# Altium integrated library NXP.IntLib: 8 symbols
Pins are listed as number, name and electrical type; pins without a type are passive.

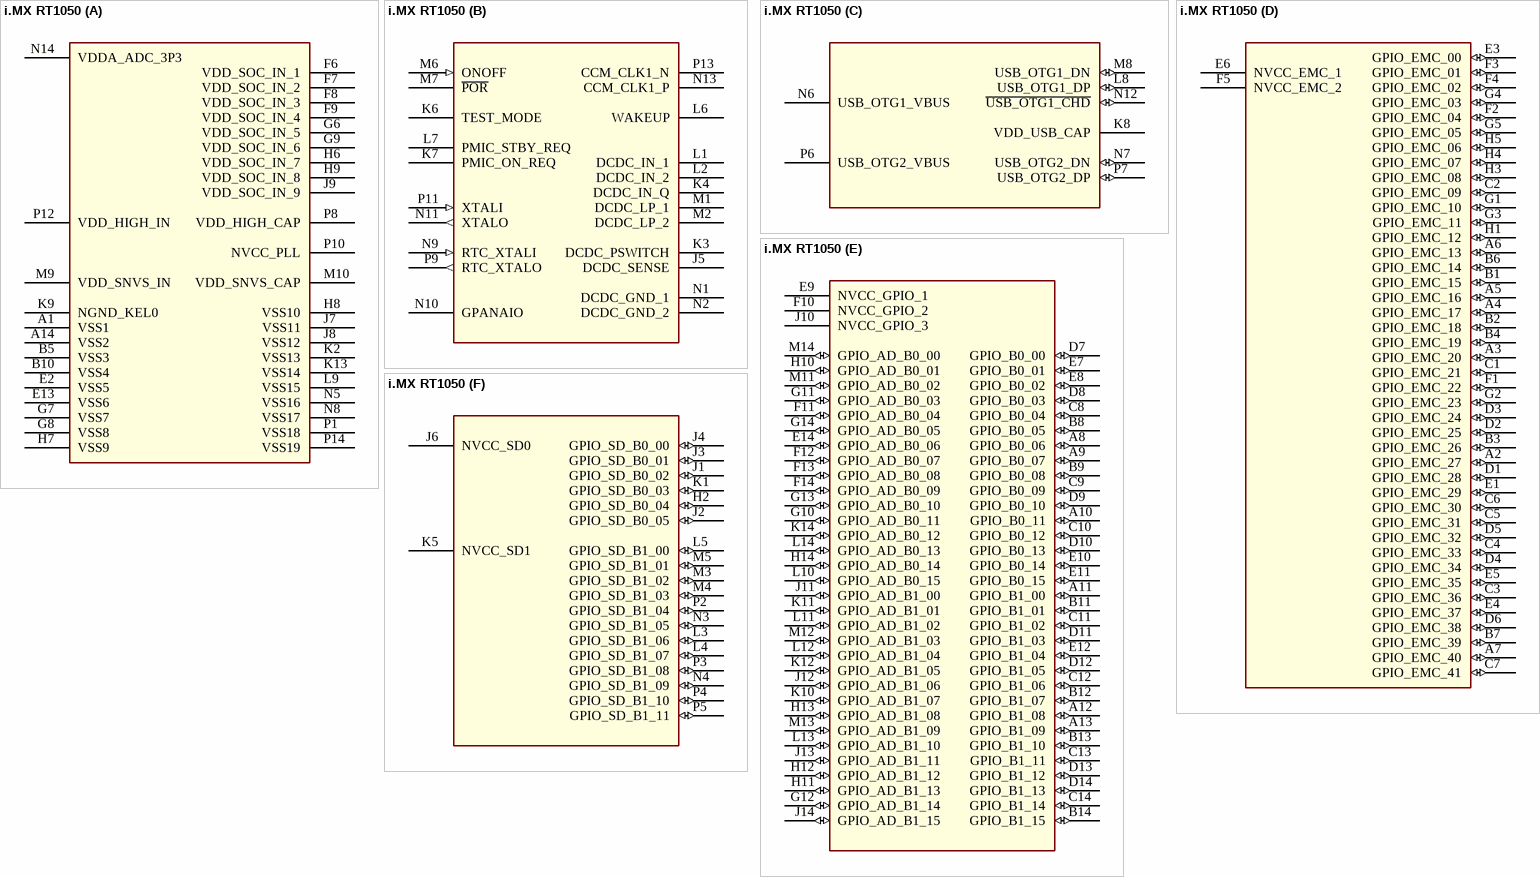
[diagram p0: symbol i.MX RT1050]

## i.MX RT1050
designator U?, comment MIMXRT1052CVL5B  (value not drawn)
The i.MX RT1050 is a new processor family featuring / NXP’s advanced implementation of the Arm Cortex®-M7 core, which operates at speeds up to 528MHz to provide high CPU performance and best real-time response.; SWAP_INFO: (S1+S2+S3+S4+S5+S6); SPLIT_INST: TRUE; CLASS: IC
footprint MAPBGA196_10X10_NXP
part A pins: A1 VSS1 (power), A14 VSS2 (power), B5 VSS3 (power), B10 VSS4 (power), E2 VSS5 (power), E13 VSS6 (power), F6 VDD_SOC_IN_1 (power), F7 VDD_SOC_IN_2 (power), F8 VDD_SOC_IN_3 (power), F9 VDD_SOC_IN_4 (power), G6 VDD_SOC_IN_5 (power), G7 VSS7 (power), G8 VSS8 (power), G9 VDD_SOC_IN_6 (power), H6 VDD_SOC_IN_7 (power), H7 VSS9 (power), H8 VSS10 (power), H9 VDD_SOC_IN_8 (power), J7 VSS11 (power), J8 VSS12 (power), J9 VDD_SOC_IN_9 (power), K2 VSS13 (power), K9 NGND_KEL0 (power), K13 VSS14 (power), L9 VSS15 (power), M9 VDD_SNVS_IN (power), M10 VDD_SNVS_CAP (power), N5 VSS16 (power), N8 VSS17 (power), N14 VDDA_ADC_3P3 (power), P1 VSS18 (power), P8 VDD_HIGH_CAP (power), P10 NVCC_PLL (power), P12 VDD_HIGH_IN (power), P14 VSS19 (power)
part B pins: J5 DCDC_SENSE, K3 DCDC_PSWITCH, K4 DCDC_IN_Q, K6 TEST_MODE, K7 PMIC_ON_REQ, L1 DCDC_IN_1, L2 DCDC_IN_2, L6 WAKEUP, L7 PMIC_STBY_REQ, M1 DCDC_LP_1, M2 DCDC_LP_2, M6 ONOFF (in), M7 ~{POR}, N1 DCDC_GND_1 (power), N2 DCDC_GND_2 (power), N9 RTC_XTALI (in), N10 GPANAIO (power), N11 XTALO (out), N13 CCM_CLK1_P, P9 RTC_XTALO (out), P11 XTALI (in), P13 CCM_CLK1_N
part C pins: K8 VDD_USB_CAP (power), L8 USB_OTG1_DP (io), M8 USB_OTG1_DN (io), N6 USB_OTG1_VBUS (power), N7 USB_OTG2_DN (io), N12 ~{USB_OTG1_CHD} (io), P6 USB_OTG2_VBUS (power), P7 USB_OTG2_DP (io)
part D pins: A2 GPIO_EMC_27 (io), A3 GPIO_EMC_20 (io), A4 GPIO_EMC_17 (io), A5 GPIO_EMC_16 (io), A6 GPIO_EMC_13 (io), A7 GPIO_EMC_40 (io), B1 GPIO_EMC_15 (io), B2 GPIO_EMC_18 (io), B3 GPIO_EMC_26 (io), B4 GPIO_EMC_19 (io), B6 GPIO_EMC_14 (io), B7 GPIO_EMC_39 (io), C1 GPIO_EMC_21 (io), C2 GPIO_EMC_09 (io), C3 GPIO_EMC_36 (io), C4 GPIO_EMC_33 (io), C5 GPIO_EMC_31 (io), C6 GPIO_EMC_30 (io), C7 GPIO_EMC_41 (io), D1 GPIO_EMC_28 (io), D2 GPIO_EMC_25 (io), D3 GPIO_EMC_24 (io), D4 GPIO_EMC_34 (io), D5 GPIO_EMC_32 (io), D6 GPIO_EMC_38 (io), E1 GPIO_EMC_29 (io), E3 GPIO_EMC_00 (io), E4 GPIO_EMC_37 (io), E5 GPIO_EMC_35 (io), E6 NVCC_EMC_1 (power), F1 GPIO_EMC_22 (io), F2 GPIO_EMC_04 (io), F3 GPIO_EMC_01 (io), F4 GPIO_EMC_02 (io), F5 NVCC_EMC_2 (power), G1 GPIO_EMC_10 (io), G2 GPIO_EMC_23 (io), G3 GPIO_EMC_11 (io), G4 GPIO_EMC_03 (io), G5 GPIO_EMC_05 (io), H1 GPIO_EMC_12 (io), H3 GPIO_EMC_08 (io), H4 GPIO_EMC_07 (io), H5 GPIO_EMC_06 (io)
part E pins: A8 GPIO_B0_06 (io), A9 GPIO_B0_07 (io), A10 GPIO_B0_11 (io), A11 GPIO_B1_00 (io), A12 GPIO_B1_08 (io), A13 GPIO_B1_09 (io), B8 GPIO_B0_05 (io), B9 GPIO_B0_08 (io), B11 GPIO_B1_01 (io), B12 GPIO_B1_07 (io), B13 GPIO_B1_10 (io), B14 GPIO_B1_15 (io), C8 GPIO_B0_04 (io), C9 GPIO_B0_09 (io), C10 GPIO_B0_12 (io), C11 GPIO_B1_02 (io), C12 GPIO_B1_06 (io), C13 GPIO_B1_11 (io), C14 GPIO_B1_14 (io), D7 GPIO_B0_00 (io), D8 GPIO_B0_03 (io), D9 GPIO_B0_10 (io), D10 GPIO_B0_13 (io), D11 GPIO_B1_03 (io), D12 GPIO_B1_05 (io), D13 GPIO_B1_12 (io), D14 GPIO_B1_13 (io), E7 GPIO_B0_01 (io), E8 GPIO_B0_02 (io), E9 NVCC_GPIO_1 (power), E10 GPIO_B0_14 (io), E11 GPIO_B0_15 (io), E12 GPIO_B1_04 (io), E14 GPIO_AD_B0_06 (io), F10 NVCC_GPIO_2 (power), F11 GPIO_AD_B0_04 (io), F12 GPIO_AD_B0_07 (io), F13 GPIO_AD_B0_08 (io), F14 GPIO_AD_B0_09 (io), G10 GPIO_AD_B0_11 (io), G11 GPIO_AD_B0_03 (io), G12 GPIO_AD_B1_14 (io), G13 GPIO_AD_B0_10 (io), G14 GPIO_AD_B0_05 (io), H10 GPIO_AD_B0_01 (io), H11 GPIO_AD_B1_13 (io), H12 GPIO_AD_B1_12 (io), H13 GPIO_AD_B1_08 (io), H14 GPIO_AD_B0_14 (io), J10 NVCC_GPIO_3 (power), J11 GPIO_AD_B1_00 (io), J12 GPIO_AD_B1_06 (io), J13 GPIO_AD_B1_11 (io), J14 GPIO_AD_B1_15 (io), K10 GPIO_AD_B1_07 (io), K11 GPIO_AD_B1_01 (io), K12 GPIO_AD_B1_05 (io), K14 GPIO_AD_B0_12 (io), L10 GPIO_AD_B0_15 (io), L11 GPIO_AD_B1_02 (io), L12 GPIO_AD_B1_04 (io), L13 GPIO_AD_B1_10 (io), L14 GPIO_AD_B0_13 (io), M11 GPIO_AD_B0_02 (io), M12 GPIO_AD_B1_03 (io), M13 GPIO_AD_B1_09 (io), M14 GPIO_AD_B0_00 (io)
part F pins: H2 GPIO_SD_B0_04 (io), J1 GPIO_SD_B0_02 (io), J2 GPIO_SD_B0_05 (io), J3 GPIO_SD_B0_01 (io), J4 GPIO_SD_B0_00 (io), J6 NVCC_SD0 (power), K1 GPIO_SD_B0_03 (io), K5 NVCC_SD1 (power), L3 GPIO_SD_B1_06 (io), L4 GPIO_SD_B1_07 (io), L5 GPIO_SD_B1_00 (io), M3 GPIO_SD_B1_02 (io), M4 GPIO_SD_B1_03 (io), M5 GPIO_SD_B1_01 (io), N3 GPIO_SD_B1_05 (io), N4 GPIO_SD_B1_09 (io), P2 GPIO_SD_B1_04 (io), P3 GPIO_SD_B1_08 (io), P4 GPIO_SD_B1_10 (io), P5 GPIO_SD_B1_11 (io)


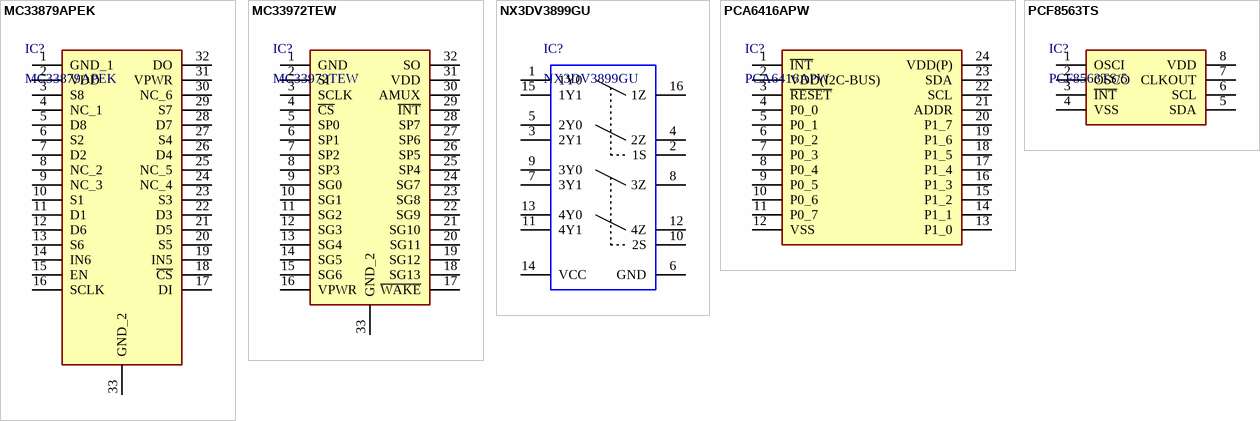
[diagram p1: symbols MC33879APEK to PCF8563TS]

## MC33879APEK
designator IC?
具有负载开路检测电流禁用的可配置八路串行开关; Manufacturer_Name: NXP; Datasheet Link: http://www.nxp.com/docs/en/data-sheet/MC33879.pdf; Height: 2.45mm; Manufacturer_Part_Number: MC33879APEK; Mouser Part Number: 841-MC33879APEK; Mouser Price/Stock: https://www.mouser.co.uk/ProductDetail/NXP-Semiconductors/MC33879APEK?qs=NnG%2FAzKRaglfvXMuXzbPcw%3D%3D; Arrow Part Number: MC33879APEK; Arrow Price/Stock: https://www.arrow.com/en/products/mc33879apek/nxp-semiconductors
footprint SOP65P1030X245-33N
pins: 1 GND_1, 2 VDD, 3 S8, 4 NC_1, 5 D8, 6 S2, 7 D2, 8 NC_2, 9 NC_3, 10 S1, 11 D1, 12 D6, 13 S6, 14 IN6, 15 EN, 16 SCLK, 17 DI, 18 ~{CS}, 19 IN5, 20 S5, 21 D5, 22 D3, 23 S3, 24 NC_4, 25 NC_5, 26 D4, 27 S4, 28 D7, 29 S7, 30 NC_6, 31 VPWR, 32 DO, 33 GND_2

## MC33972TEW
designator IC?
Multiple Switch Detection Interface with Suppressed Wake-up; Manufacturer_Name: NXP; Datasheet Link: http://www.nxp.com/docs/en/data-sheet/MC33972.pdf; Height: 2.65mm; Manufacturer_Part_Number: MC33972TEW; Mouser Part Number: 841-MC33972TEW; Mouser Price/Stock: https://www.mouser.co.uk/ProductDetail/NXP-Semiconductors/MC33972TEW?qs=qY7PjdCYu8RfbyCVU9so1g%3D%3D; Arrow Part Number: MC33972TEW; Arrow Price/Stock: https://www.arrow.com/en/products/mc33972tew/nxp-semiconductors?region=nac
footprint SOP65P1030X265-33N
pins: 1 GND, 2 SI, 3 SCLK, 4 ~{CS}, 5 SP0, 6 SP1, 7 SP2, 8 SP3, 9 SG0, 10 SG1, 11 SG2, 12 SG3, 13 SG4, 14 SG5, 15 SG6, 16 VPWR, 17 ~{WAKE}, 18 SG13, 19 SG12, 20 SG11, 21 SG10, 22 SG9, 23 SG8, 24 SG7, 25 SP4, 26 SP5, 27 SP6, 28 SP7, 29 ~{INT}, 30 AMUX, 31 VDD, 32 SO, 33 GND_2

## NX3DV3899GU
designator IC?
Dual double-pole double-throw analog switch; Manufacturer_Name: NXP; Manufacturer_Part_Number: NX3DV3899GU,115; Revised  By: Z_xiao; Datasheet Link: https://www.nxp.com/docs/en/data-sheet/NX3DV3899.pdf; Height: 0.5mm; Mouser Part Number: 771-NX3DV3899GU115; Mouser Price/Stock: https://www.mouser.co.uk/ProductDetail/NXP-Semiconductors/NX3DV3899GU115?qs=67TfscD5Paea6cyWZ2q8Cg%3D%3D; ComponentLink1Description: Datasheet; ComponentLink1URL: https://www.nxp.com.cn/docs/en/data-sheet/NX3DV3899.pdf; Supplier 1: Arrow Electronics; Supplier Part Number 1: NX3DV3899GU,115
footprint NX3DV3899GU115
pins: 1 1Y0, 2 1S, 3 2Y1, 4 2Z, 5 2Y0, 6 GND, 7 3Y1, 8 3Z, 9 3Y0, 10 2S, 11 4Y1, 12 4Z, 13 4Y0, 14 VCC, 15 1Y1, 16 1Z

## PCA6416APW
designator IC?
Low-voltage translating 16-bit I2C-bus/SMBus I/O expander / with interrupt output, reset, and configuration registers; Manufacturer_Name: NXP; Datasheet Link: https://www.mouser.jp/datasheet/2/302/PCA6416A-1127414.pdf; Height: 1.1mm; Manufacturer_Part_Number: PCA6416APW; Mouser Part Number: N/A; Mouser Price/Stock: https://www.mouser.co.uk/ProductDetail/NXP-Semiconductors/PCA6416APW?qs=fAHHVMwC%252BbjIi1CGohX8Jg%3D%3D
footprint SOP65P640X110-24N
pins: 1 ~{INT}, 2 VDD(I2C-BUS), 3 ~{RESET}, 4 P0_0, 5 P0_1, 6 P0_2, 7 P0_3, 8 P0_4, 9 P0_5, 10 P0_6, 11 P0_7, 12 VSS, 13 P1_0, 14 P1_1, 15 P1_2, 16 P1_3, 17 P1_4, 18 P1_5, 19 P1_6, 20 P1_7, 21 ADDR, 22 SCL, 23 SDA, 24 VDD(P)

## PCF8563TS
designator IC?, comment PCF8563TS/5
PCF8563 是一款低功耗的 CMOS1实时时钟/日历芯片，支持可编程时钟输出、中断输出 / 和低压检测。所有地址和数据通过双线双向I2C总线串联传输，最高速率：400 kbps。每 / 次读写数据字节后，寄存器地址自动累加。; Manufacturer_Name: NXP; Manufacturer_Part_Number: PCF8563TS/4,118; Description: Real Time Clock ULTRA LOW PWR CLOCK RTC IC; Datasheet Link: http://www.nxp.com/docs/en/data-sheet/PCF8563.pdf; Height: 1.1mm; Mouser Part Number: 771-PCF8563TS-T; Mouser Price/Stock: https://www.mouser.co.uk/ProductDetail/NXP-Semiconductors/PCF8563TS-4118?qs=LOCUfHb8d9ugg%2FdJSyv6Ig%3D%3D; Arrow Part Number: PCF8563TS/4,118; Arrow Price/Stock: https://www.arrow.com/en/products/pcf8563ts4118/nxp-semiconductors?region=nac
footprint SOP65P490X110-8N
pins: 1 OSCI, 2 OSCO, 3 ~{INT}, 4 VSS, 5 SDA, 6 SCL, 7 CLKOUT, 8 VDD


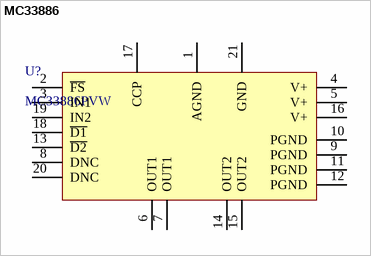
[diagram p2: symbol MC33886]

## MC33886
designator U?, comment MC33886PVW
全桥驱动器
footprint HSOP20
pins: 1 AGND, 2 ~{FS}, 3 IN1, 4 V+, 5 V+, 6 OUT1, 7 OUT1, 8 DNC, 9 PGND, 10 PGND, 11 PGND, 12 PGND, 13 ~{D2}, 14 OUT2, 15 OUT2, 16 V+, 17 CCP, 18 ~{D1}, 19 IN2, 20 DNC, 21 GND


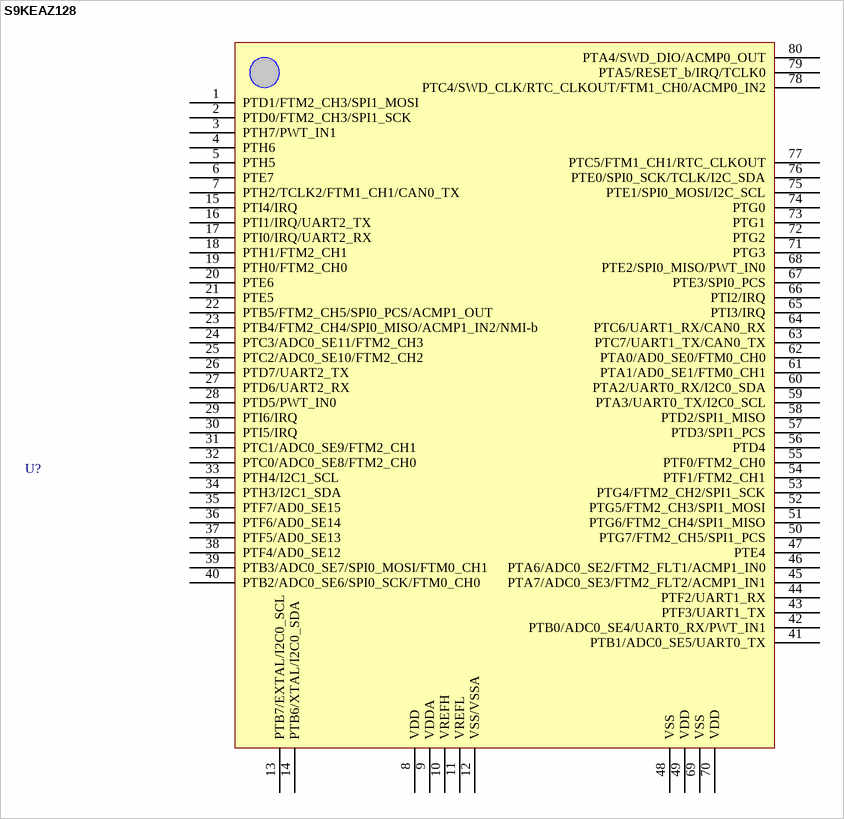
[diagram p3: symbol S9KEAZ128]

## S9KEAZ128
designator U?  (value not drawn)
32恩智浦单片机
footprint LQFP80 14x14_L (80脚，体宽14x14mm，脚距0.65mm)
pins: 1 PTD1/FTM2_CH3/SPI1_MOSI, 2 PTD0/FTM2_CH3/SPI1_SCK, 3 PTH7/PWT_IN1, 4 PTH6, 5 PTH5, 6 PTE7, 7 PTH2/TCLK2/FTM1_CH1/CAN0_TX, 8 VDD, 9 VDDA, 10 VREFH, 11 VREFL, 12 VSS/VSSA, 13 PTB7/EXTAL/I2C0_SCL, 14 PTB6/XTAL/I2C0_SDA, 15 PTI4/IRQ, 16 PTI1/IRQ/UART2_TX, 17 PTI0/IRQ/UART2_RX, 18 PTH1/FTM2_CH1, 19 PTH0/FTM2_CH0, 20 PTE6, 21 PTE5, 22 PTB5/FTM2_CH5/SPI0_PCS/ACMP1_OUT, 23 PTB4/FTM2_CH4/SPI0_MISO/ACMP1_IN2/NMI-b, 24 PTC3/ADC0_SE11/FTM2_CH3, 25 PTC2/ADC0_SE10/FTM2_CH2, 26 PTD7/UART2_TX, 27 PTD6/UART2_RX, 28 PTD5/PWT_IN0, 29 PTI6/IRQ, 30 PTI5/IRQ, 31 PTC1/ADC0_SE9/FTM2_CH1, 32 PTC0/ADC0_SE8/FTM2_CH0, 33 PTH4/I2C1_SCL, 34 PTH3/I2C1_SDA, 35 PTF7/AD0_SE15, 36 PTF6/AD0_SE14, 37 PTF5/AD0_SE13, 38 PTF4/AD0_SE12, 39 PTB3/ADC0_SE7/SPI0_MOSI/FTM0_CH1, 40 PTB2/ADC0_SE6/SPI0_SCK/FTM0_CH0, 41 PTB1/ADC0_SE5/UART0_TX, 42 PTB0/ADC0_SE4/UART0_RX/PWT_IN1, 43 PTF3/UART1_TX, 44 PTF2/UART1_RX, 45 PTA7/ADC0_SE3/FTM2_FLT2/ACMP1_IN1, 46 PTA6/ADC0_SE2/FTM2_FLT1/ACMP1_IN0, 47 PTE4, 48 VSS, 49 VDD, 50 PTG7/FTM2_CH5/SPI1_PCS, 51 PTG6/FTM2_CH4/SPI1_MISO, 52 PTG5/FTM2_CH3/SPI1_MOSI, 53 PTG4/FTM2_CH2/SPI1_SCK, 54 PTF1/FTM2_CH1, 55 PTF0/FTM2_CH0, 56 PTD4, 57 PTD3/SPI1_PCS, 58 PTD2/SPI1_MISO, 59 PTA3/UART0_TX/I2C0_SCL, 60 PTA2/UART0_RX/I2C0_SDA, 61 PTA1/AD0_SE1/FTM0_CH1, 62 PTA0/AD0_SE0/FTM0_CH0, 63 PTC7/UART1_TX/CAN0_TX, 64 PTC6/UART1_RX/CAN0_RX, 65 PTI3/IRQ, 66 PTI2/IRQ, 67 PTE3/SPI0_PCS, 68 PTE2/SPI0_MISO/PWT_IN0, 69 VSS, 70 VDD, 71 PTG3, 72 PTG2, 73 PTG1, 74 PTG0, 75 PTE1/SPI0_MOSI/I2C_SCL, 76 PTE0/SPI0_SCK/TCLK/I2C_SDA, 77 PTC5/FTM1_CH1/RTC_CLKOUT, 78 PTC4/SWD_CLK/RTC_CLKOUT/FTM1_CH0/ACMP0_IN2, 79 PTA5/RESET_b/IRQ/TCLK0, 80 PTA4/SWD_DIO/ACMP0_OUT